# EAGLE library part D9-1A (library 00_diode)
8 DIODES SIL, common anode
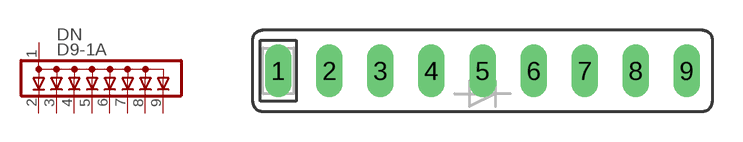
[diagram p2: symbol with the pads of SIL09A; footprint SIL09A]

Designator prefix DN

## D9-1A  [SIL09A]
1  A  pas
2  C2  pas
3  C3  pas
4  C4  pas
5  C5  pas
6  C6  pas
7  C7  pas
8  C8  pas
9  C9  pas

## Footprint SIL09A (pad centres in mm)
8 DIODES single in line 8 diodes with common anode
drill 0.813 long: 1 -10.16,0; 2 -7.62,0; 3 -5.08,0; 4 -2.54,0; 5 0,0; 6 2.54,0; 7 5.08,0; 8 7.62,0; 9 10.16,0